# EAGLE library part LIS2MDL (library ICs)
Digital output magnetic sensor: ultra-low-power, high-performance 3-axis magnetometer
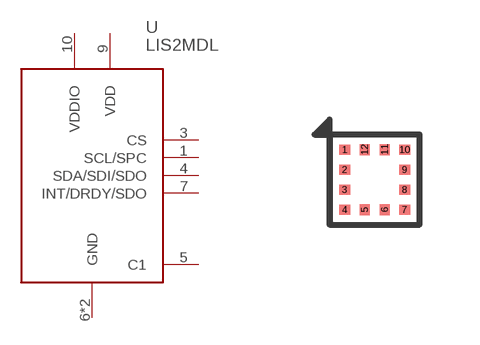
[diagram p240: symbol with the pads of LGA12-LSM303; footprint LGA12-LSM303]

Designator prefix U

## LIS2MDL (DIGIKEY: 497-17588-1-ND; HEIGHT: 1; PRICE_PER: 1.48; VALUE: LIS2MDL)  [LGA12-LSM303]
1  SCL/SPC
3  CS
4  SDA/SDI/SDO
5  C1
6  GND
7  INT/DRDY/SDO
8  GND
9  VDD
10  VDDIO

## Footprint LGA12-LSM303 (pad centres in mm)
smd 0.275 x 0.25: 1 -0.75,0.75; 2 -0.75,0.25; 3 -0.75,-0.25; 4 -0.75,-0.75; 7 0.75,-0.75; 8 0.75,-0.25; 9 0.75,0.25; 10 0.75,0.75
smd 0.25 x 0.275: 5 -0.25,-0.75; 6 0.25,-0.75; 11 0.25,0.75; 12 -0.25,0.75